# Altium schematic symbol library schottky_dual_KAA.Schlib: 1 symbol
Pins are listed as number, name and electrical type; pins without a type are passive.

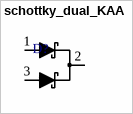
[diagram p0: symbol schottky_dual_KAA]

## schottky_dual_KAA
designator D?
Schottky Diode, Dual, Common Cathode
pins: 1 A, 2 K, 3 A